# Altium footprint library Infineon Transceiver.PcbLib: 19 footprints (part 1 of 2)
Each footprint in its own frame and in the unit in brackets; x right, y up, seen from the top. Pads: shape width x height; smd on the part's side, far side on the other; paste and mask are expansions set on the pad; w line width, h text height; cw(c..) or ccw(c..) is an arc to the next point about the centre after c.
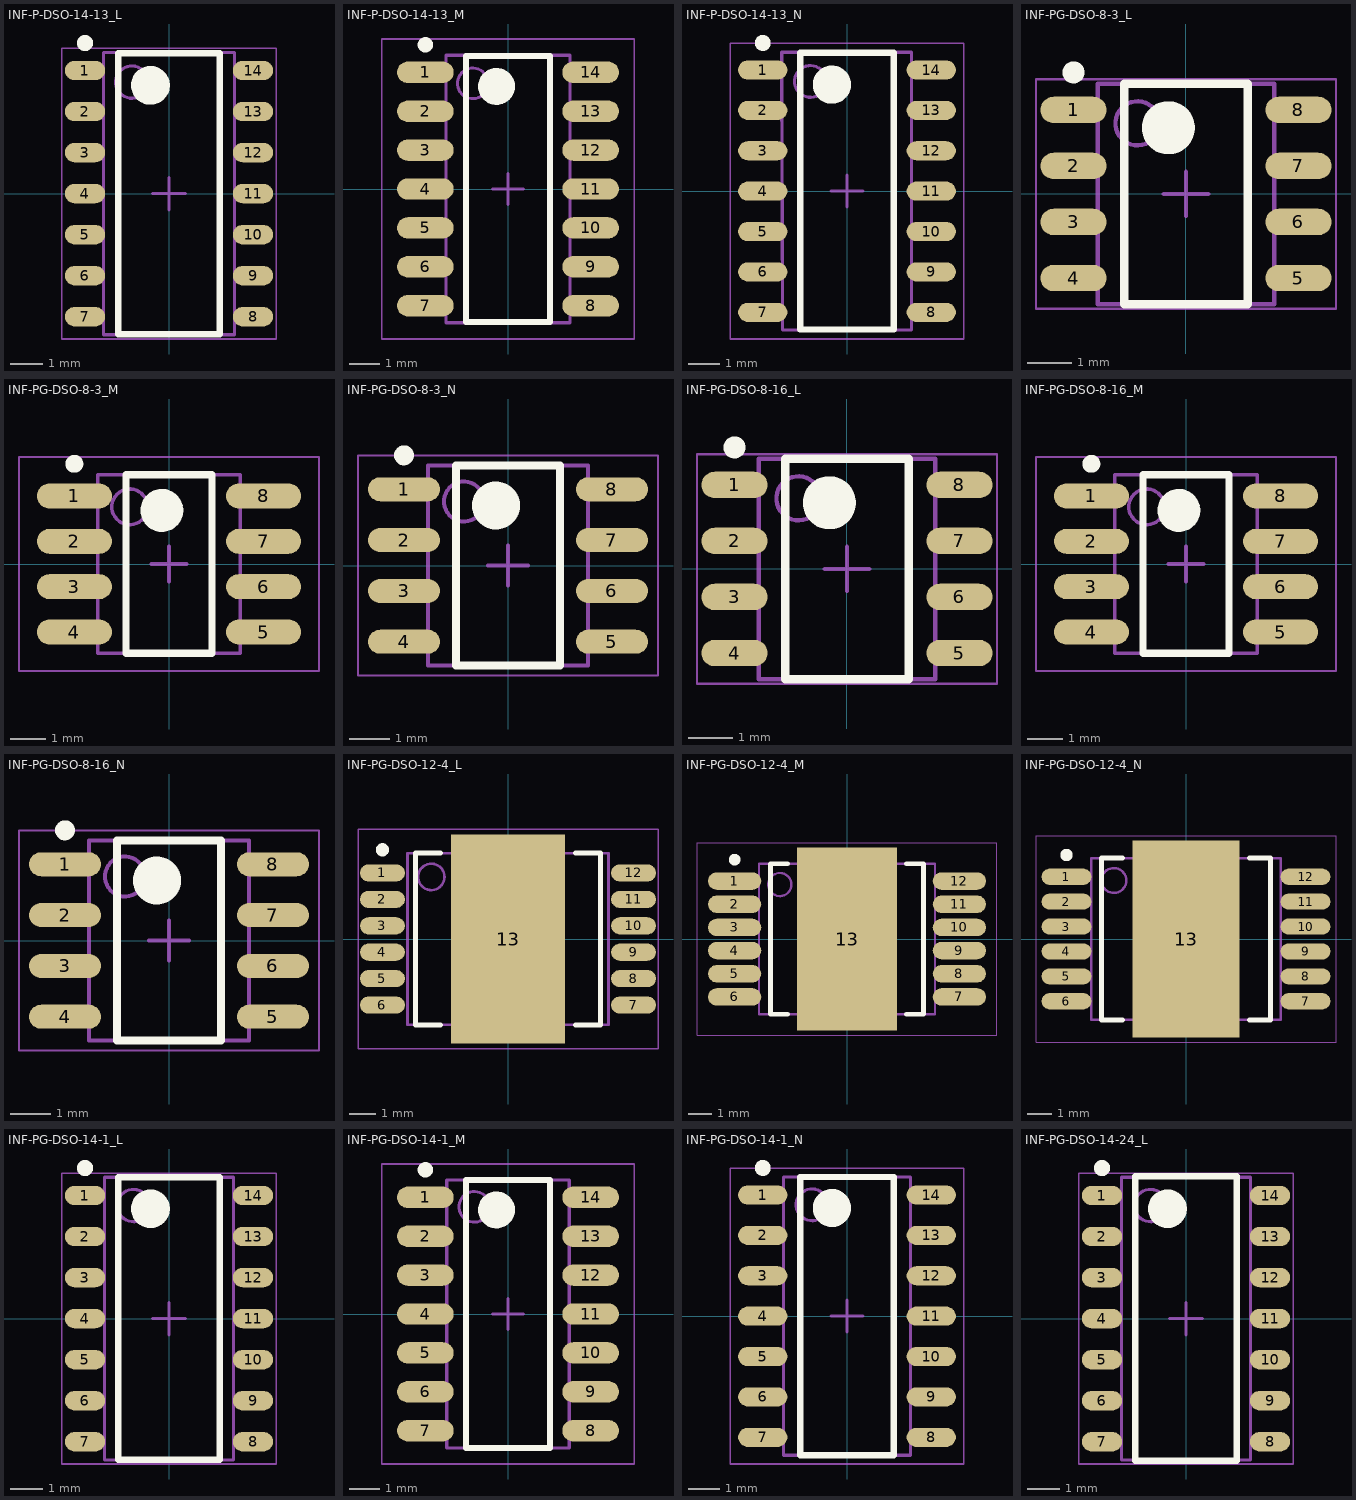
[diagram p0: the footprints below, top view; thin cyan lines are the x and y axes]

## INF-P-DSO-14-13_L [mm] "SOP, 14-Leads, Body 8.69x4mm, Pitch 1.27mm, IPC High Density"
height 1.75
pads (14):
  oval 1.25x0.6 smd: 1(-2.6,3.81) 2(-2.6,2.54) 3(-2.6,1.27) 4(-2.6,0) 5(-2.6,-1.27) 6(-2.6,-2.54) 7(-2.6,-3.81) 8(2.6,-3.81) 9(2.6,-2.54) 10(2.6,-1.27) 11(2.6,0) 12(2.6,1.27) 13(2.6,2.54) 14(2.6,3.81)
Top Overlay:
  circle w0.6: c-0.575,3.35 r0.3
  circle w0.25: c-2.6,4.66 r0.125
  lines w0.2: -1.575,-4.35 1.575,-4.35 1.575,4.35 -1.575,4.35 -1.575,-4.35
Mechanical 13:
  circle w0.1: c-1.15,3.45 r0.5
  lines w0.1: -2.025,-4.37 2.025,-4.37 2.025,4.37 -2.025,4.37 -2.025,-4.37
Mechanical 15:
  lines w0.05: -3.325,-4.5 3.325,-4.5 3.325,4.5 -3.325,4.5 -3.325,-4.5
  lines w0.1: -0.5,0 0.5,0 ; 0,-0.5 0,0.5
3D body: height 1.75, standoff 0.1, extent -2.025,-4.37 2.025,4.37

## INF-P-DSO-14-13_M [mm] "SOP, 14-Leads, Body 8.69x4mm, Pitch 1.27mm, IPC Low Density"
height 1.75
pads (14):
  oval 1.85x0.7 smd: 1(-2.7,3.81) 2(-2.7,2.54) 3(-2.7,1.27) 4(-2.7,0) 5(-2.7,-1.27) 6(-2.7,-2.54) 7(-2.7,-3.81) 8(2.7,-3.81) 9(2.7,-2.54) 10(2.7,-1.27) 11(2.7,0) 12(2.7,1.27) 13(2.7,2.54) 14(2.7,3.81)
Top Overlay:
  circle w0.6: c-0.375,3.35 r0.3
  circle w0.25: c-2.7,4.71 r0.125
  lines w0.2: -1.375,-4.35 1.375,-4.35 1.375,4.35 -1.375,4.35 -1.375,-4.35
Mechanical 13:
  circle w0.1: c-1.15,3.45 r0.5
  lines w0.1: -2.025,-4.37 2.025,-4.37 2.025,4.37 -2.025,4.37 -2.025,-4.37
Mechanical 15:
  lines w0.05: -4.125,-4.9 4.125,-4.9 4.125,4.9 -4.125,4.9 -4.125,-4.9
  lines w0.1: -0.5,0 0.5,0 ; 0,-0.5 0,0.5
3D body: height 1.75, standoff 0.1, extent -2.025,-4.37 2.025,4.37

## INF-P-DSO-14-13_N [mm] "SOP, 14-Leads, Body 8.69x4mm, Pitch 1.27mm, IPC Medium Density"
height 1.75
pads (14):
  oval 1.55x0.6 smd: 1(-2.65,3.81) 2(-2.65,2.54) 3(-2.65,1.27) 4(-2.65,0) 5(-2.65,-1.27) 6(-2.65,-2.54) 7(-2.65,-3.81) 8(2.65,-3.81) 9(2.65,-2.54) 10(2.65,-1.27) 11(2.65,0) 12(2.65,1.27) 13(2.65,2.54) 14(2.65,3.81)
Top Overlay:
  circle w0.6: c-0.475,3.35 r0.3
  circle w0.25: c-2.65,4.66 r0.125
  lines w0.2: -1.475,-4.35 1.475,-4.35 1.475,4.35 -1.475,4.35 -1.475,-4.35
Mechanical 13:
  circle w0.1: c-1.15,3.45 r0.5
  lines w0.1: -2.05,4.37 -2.025,-4.37 2.025,-4.37 2.025,4.37 -2.025,4.37
Mechanical 15:
  lines w0.05: -3.675,-4.65 3.675,-4.65 3.675,4.65 -3.675,4.65 -3.675,-4.65
  lines w0.1: -0.5,0 0.5,0 ; 0,-0.5 0,0.5
3D body: height 1.75, standoff 0.1, extent -2.05,-4.37 2.025,4.37

## INF-PG-DSO-8-3_L [mm] "SOP, 8-Leads, Body 4.9x3.9mm, Pitch 1.27mm, IPC High Density"
height 1.75
pads (8):
  oval 1.5x0.6 smd: 1(-2.55,1.905) 2(-2.55,0.635) 3(-2.55,-0.635) 4(-2.55,-1.905) 5(2.55,-1.905) 6(2.55,-0.635) 7(2.55,0.635) 8(2.55,1.905)
Top Overlay:
  circle w0.6: c-0.4,1.5 r0.3
  circle w0.25: c-2.55,2.755 r0.125
  lines w0.2: -1.4,-2.5 1.4,-2.5 1.4,2.5 -1.4,2.5 -1.4,-2.5
Mechanical 13:
  circle w0.1: c-1.1,1.6 r0.5
  lines w0.1: -2,-2.5 2,-2.5 2,2.5 -2,2.5 -2,-2.5
Mechanical 15:
  lines w0.05: -3.4,-2.6 3.4,-2.6 3.4,2.6 -3.4,2.6 -3.4,-2.6
  lines w0.1: -0.5,0 0.5,0 ; 0,-0.5 0,0.5
3D body: height 1.75, standoff 0.1, extent -2,-2.5 2,2.5

## INF-PG-DSO-8-3_M [mm] "SOP, 8-Leads, Body 4.9x3.9mm, Pitch 1.27mm, IPC Low Density"
height 1.75
pads (8):
  oval 2.1x0.7 smd: 1(-2.65,1.905) 2(-2.65,0.635) 3(-2.65,-0.635) 4(-2.65,-1.905) 5(2.65,-1.905) 6(2.65,-0.635) 7(2.65,0.635) 8(2.65,1.905)
Top Overlay:
  circle w0.25: c-2.65,2.805 r0.125
  circle w0.6: c-0.2,1.5 r0.3
  lines w0.2: -1.2,-2.5 -1.2,2.5 1.2,2.5 1.2,-2.5 -1.2,-2.5
Mechanical 13:
  circle w0.1: c-1.1,1.6 r0.5
  lines w0.1: -2,-2.5 -2,2.5 2,2.5 2,-2.5 -2,-2.5
Mechanical 15:
  lines w0.05: -4.2,-3 -4.2,3 4.2,3 4.2,-3 -4.2,-3
  lines w0.1: -0.5,0 0.5,0 ; 0,-0.5 0,0.5
3D body: height 1.75, standoff 0.1, extent -2,-2.5 2,2.5

## INF-PG-DSO-8-3_N [mm] "SOP, 8-Leads, Body 4.9x3.9mm, Pitch 1.27mm, IPC Medium Density"
height 1.75
pads (8):
  oval 1.8x0.6 smd: 1(-2.6,1.905) 2(-2.6,0.635) 3(-2.6,-0.635) 4(-2.6,-1.905) 5(2.6,-1.905) 6(2.6,-0.635) 7(2.6,0.635) 8(2.6,1.905)
Top Overlay:
  circle w0.25: c-2.6,2.755 r0.125
  circle w0.6: c-0.3,1.5 r0.3
  lines w0.2: -1.3,-2.5 -1.3,2.5 1.3,2.5 1.3,-2.5 -1.3,-2.5
Mechanical 13:
  circle w0.1: c-1.1,1.6 r0.5
  lines w0.1: -2,-2.5 -2,2.5 2,2.5 2,-2.5 -2,-2.5
Mechanical 15:
  lines w0.05: -3.75,-2.75 -3.75,2.75 3.75,2.75 3.75,-2.75 -3.75,-2.75
  lines w0.1: -0.5,0 0.5,0 ; 0,-0.5 0,0.5
3D body: height 1.75, standoff 0.1, extent -2,-2.5 2,2.5

## INF-PG-DSO-8-16_L [mm] "SOP, 8-Leads, Body 4.9x3.9mm, Pitch 1.27mm, IPC High Density"
height 1.75
pads (8):
  oval 1.5x0.6 smd: 1(-2.55,1.905) 2(-2.55,0.635) 3(-2.55,-0.635) 4(-2.55,-1.905) 5(2.55,-1.905) 6(2.55,-0.635) 7(2.55,0.635) 8(2.55,1.905)
Top Overlay:
  circle w0.25: c-2.55,2.755 r0.125
  circle w0.6: c-0.4,1.5 r0.3
  lines w0.2: -1.4,-2.5 -1.4,2.5 1.4,2.5 1.4,-2.5 -1.4,-2.5
Mechanical 13:
  circle w0.1: c-1.1,1.6 r0.5
  lines w0.1: -2,-2.5 -2,2.5 2,2.5 2,-2.5 -2,-2.5
Mechanical 15:
  lines w0.05: -3.4,-2.6 -3.4,2.6 3.4,2.6 3.4,-2.6 -3.4,-2.6
  lines w0.1: -0.5,0 0.5,0 ; 0,-0.5 0,0.5
3D body: height 1.75, standoff 0.11, extent -2,-2.5 2,2.5

## INF-PG-DSO-8-16_M [mm] "SOP, 8-Leads, Body 4.9x3.9mm, Pitch 1.27mm, IPC Low Density"
height 1.75
pads (8):
  oval 2.1x0.7 smd: 1(-2.65,1.905) 2(-2.65,0.635) 3(-2.65,-0.635) 4(-2.65,-1.905) 5(2.65,-1.905) 6(2.65,-0.635) 7(2.65,0.635) 8(2.65,1.905)
Top Overlay:
  circle w0.25: c-2.65,2.805 r0.125
  circle w0.6: c-0.2,1.5 r0.3
  lines w0.2: -1.2,-2.5 -1.2,2.5 1.2,2.5 1.2,-2.5 -1.2,-2.5
Mechanical 13:
  circle w0.1: c-1.1,1.6 r0.5
  lines w0.1: -2,-2.5 -2,2.5 2,2.5 2,-2.5 -2,-2.5
Mechanical 15:
  lines w0.05: -4.2,-3 -4.2,3 4.2,3 4.2,-3 -4.2,-3
  lines w0.1: -0.5,0 0.5,0 ; 0,-0.5 0,0.5
3D body: height 1.75, standoff 0.11, extent -2,-2.5 2,2.5

## INF-PG-DSO-8-16_N [mm] "SOP, 8-Leads, Body 4.9x3.9mm, Pitch 1.27mm, IPC Medium Density"
height 1.75
pads (8):
  oval 1.8x0.6 smd: 1(-2.6,1.905) 2(-2.6,0.635) 3(-2.6,-0.635) 4(-2.6,-1.905) 5(2.6,-1.905) 6(2.6,-0.635) 7(2.6,0.635) 8(2.6,1.905)
Top Overlay:
  circle w0.25: c-2.6,2.755 r0.125
  circle w0.6: c-0.3,1.5 r0.3
  lines w0.2: -1.3,-2.5 -1.3,2.5 1.3,2.5 1.3,-2.5 -1.3,-2.5
Mechanical 13:
  circle w0.1: c-1.1,1.6 r0.5
  lines w0.1: -2,-2.5 -2,2.5 2,2.5 2,-2.5 -2,-2.5
Mechanical 15:
  lines w0.05: -3.75,-2.75 -3.75,2.75 3.75,2.75 3.75,-2.75 -3.75,-2.75
  lines w0.1: -0.5,0 0.5,0 ; 0,-0.5 0,0.5
3D body: height 1.75, standoff 0.11, extent -2,-2.5 2,2.5

## INF-PG-DSO-12-4_L [mm] "SOP, 12-Leads, Body 7.5x6.4mm, Pitch 1mm, Thermal Pad 7.9x4.3mm, IPC High Density"
height 2.6
pads (13):
  oval 1.7x0.65 smd: 1(-4.75,2.5) 2(-4.75,1.5) 3(-4.75,0.5) 4(-4.75,-0.5) 5(-4.75,-1.5) 6(-4.75,-2.5) 7(4.75,-2.5) 8(4.75,-1.5) 9(4.75,-0.5) 10(4.75,0.5) 11(4.75,1.5) 12(4.75,2.5)
  rect 4.3x7.9 smd: 13(0,0)
Top Overlay:
  circle w0.25: c-4.75,3.375 r0.125
  lines w0.2: -2.55,-3.25 -3.5,-3.25 -3.5,3.25 -2.55,3.25 ; 2.55,-3.25 3.5,-3.25 3.5,3.25 2.55,3.25
Mechanical 13:
  circle w0.1: c-2.9,2.35 r0.5
  lines w0.1: -3.8,-3.25 -3.8,3.25 3.8,3.25 3.8,-3.25 -3.8,-3.25
Mechanical 15:
  lines w0.05: -5.675,-4.15 -5.675,4.15 5.675,4.15 5.675,-4.15 -5.675,-4.15
  lines w0.1: -0.5,0 0.5,0 ; 0,-0.5 0,0.5
3D body: height 2.6, standoff 0, extent -3.8,-3.25 3.8,3.25

## INF-PG-DSO-12-4_M [mm] "SOP, 12-Leads, Body 7.5x6.4mm, Pitch 1mm, Thermal Pad 7.9x4.3mm, IPC Low Density"
height 2.6
pads (13):
  oval 2.3x0.75 smd: 1(-4.85,2.5) 2(-4.85,1.5) 3(-4.85,0.5) 4(-4.85,-0.5) 5(-4.85,-1.5) 6(-4.85,-2.5) 7(4.85,-2.5) 8(4.85,-1.5) 9(4.85,-0.5) 10(4.85,0.5) 11(4.85,1.5) 12(4.85,2.5)
  rect 4.3x7.9 smd: 13(0,0)
Top Overlay:
  circle w0.25: c-4.85,3.425 r0.125
  lines w0.2: -2.55,-3.25 -3.3,-3.25 -3.3,3.25 -2.55,3.25 ; 2.55,-3.25 3.3,-3.25 3.3,3.25 2.55,3.25
Mechanical 13:
  circle w0.1: c-2.9,2.35 r0.5
  lines w0.1: -3.8,-3.25 -3.8,3.25 3.8,3.25 3.8,-3.25 -3.8,-3.25
Mechanical 15:
  lines w0.05: -6.475,-4.15 -6.475,4.15 6.475,4.15 6.475,-4.15 -6.475,-4.15
  lines w0.1: -0.5,0 0.5,0 ; 0,-0.5 0,0.5
3D body: height 2.6, standoff 0, extent -3.8,-3.25 3.8,3.25

## INF-PG-DSO-12-4_N [mm] "SOP, 12-Leads, Body 7.5x6.4mm, Pitch 1mm, Thermal Pad 7.9x4.3mm, IPC Medium Density"
height 2.6
pads (13):
  oval 2x0.65 smd: 1(-4.8,2.5) 2(-4.8,1.5) 3(-4.8,0.5) 4(-4.8,-0.5) 5(-4.8,-1.5) 6(-4.8,-2.5) 7(4.8,-2.5) 8(4.8,-1.5) 9(4.8,-0.5) 10(4.8,0.5) 11(4.8,1.5) 12(4.8,2.5)
  rect 4.3x7.9 smd: 13(0,0)
Top Overlay:
  circle w0.25: c-4.8,3.375 r0.125
  lines w0.2: -2.55,-3.25 -3.4,-3.25 -3.4,3.25 -2.55,3.25 ; 2.55,-3.25 3.4,-3.25 3.4,3.25 2.55,3.25
Mechanical 13:
  circle w0.1: c-2.9,2.35 r0.5
  lines w0.1: -3.8,-3.25 -3.8,3.25 3.8,3.25 3.8,-3.25 -3.8,-3.25
Mechanical 15:
  lines w0.05: -6.025,-4.15 -6.025,4.15 6.025,4.15 6.025,-4.15 -6.025,-4.15
  lines w0.1: -0.5,0 0.5,0 ; 0,-0.5 0,0.5
3D body: height 2.6, standoff 0, extent -3.8,-3.25 3.8,3.25

## INF-PG-DSO-14-1_L [mm] "SOP, 14-Leads, Body 8.65x3.9mm, Pitch 1.27mm, IPC High Density"
height 1.75
pads (14):
  oval 1.25x0.6 smd: 1(-2.6,3.81) 2(-2.6,2.54) 3(-2.6,1.27) 4(-2.6,0) 5(-2.6,-1.27) 6(-2.6,-2.54) 7(-2.6,-3.81) 8(2.6,-3.81) 9(2.6,-2.54) 10(2.6,-1.27) 11(2.6,0) 12(2.6,1.27) 13(2.6,2.54) 14(2.6,3.81)
Top Overlay:
  circle w0.6: c-0.575,3.4 r0.3
  circle w0.25: c-2.6,4.66 r0.125
  lines w0.2: -1.575,-4.375 1.575,-4.375 1.575,4.375 -1.575,4.375 -1.575,-4.375
Mechanical 13:
  circle w0.1: c-1.1,3.5 r0.5
  lines w0.1: -2,-4.375 2,-4.375 2,4.375 -2,4.375 -2,-4.375
Mechanical 15:
  lines w0.05: -3.325,-4.5 3.325,-4.5 3.325,4.5 -3.325,4.5 -3.325,-4.5
  lines w0.1: -0.5,0 0.5,0 ; 0,-0.5 0,0.5
3D body: height 1.75, standoff 0.11, extent -2,-4.375 2,4.375

## INF-PG-DSO-14-1_M [mm] "SOP, 14-Leads, Body 8.65x3.9mm, Pitch 1.27mm, IPC Low Density"
height 1.75
pads (14):
  oval 1.85x0.7 smd: 1(-2.7,3.81) 2(-2.7,2.54) 3(-2.7,1.27) 4(-2.7,0) 5(-2.7,-1.27) 6(-2.7,-2.54) 7(-2.7,-3.81) 8(2.7,-3.81) 9(2.7,-2.54) 10(2.7,-1.27) 11(2.7,0) 12(2.7,1.27) 13(2.7,2.54) 14(2.7,3.81)
Top Overlay:
  circle w0.6: c-0.375,3.4 r0.3
  circle w0.25: c-2.7,4.71 r0.125
  lines w0.2: -1.375,-4.375 1.375,-4.375 1.375,4.375 -1.375,4.375 -1.375,-4.375
Mechanical 13:
  circle w0.1: c-1.1,3.5 r0.5
  lines w0.1: -2,-4.375 2,-4.375 2,4.375 -2,4.375 -2,-4.375
Mechanical 15:
  lines w0.05: -4.125,-4.9 4.125,-4.9 4.125,4.9 -4.125,4.9 -4.125,-4.9
  lines w0.1: -0.5,0 0.5,0 ; 0,-0.5 0,0.5
3D body: height 1.75, standoff 0.11, extent -2,-4.375 2,4.375

## INF-PG-DSO-14-1_N [mm] "SOP, 14-Leads, Body 8.65x3.9mm, Pitch 1.27mm, IPC Medium Density"
height 1.75
pads (14):
  oval 1.55x0.6 smd: 1(-2.65,3.81) 2(-2.65,2.54) 3(-2.65,1.27) 4(-2.65,0) 5(-2.65,-1.27) 6(-2.65,-2.54) 7(-2.65,-3.81) 8(2.65,-3.81) 9(2.65,-2.54) 10(2.65,-1.27) 11(2.65,0) 12(2.65,1.27) 13(2.65,2.54) 14(2.65,3.81)
Top Overlay:
  circle w0.6: c-0.475,3.4 r0.3
  circle w0.25: c-2.65,4.66 r0.125
  lines w0.2: -1.475,-4.375 1.475,-4.375 1.475,4.375 -1.475,4.375 -1.475,-4.375
Mechanical 13:
  circle w0.1: c-1.1,3.5 r0.5
  lines w0.1: -2,-4.375 2,-4.375 2,4.375 -2,4.375 -2,-4.375
Mechanical 15:
  lines w0.05: -3.675,-4.65 3.675,-4.65 3.675,4.65 -3.675,4.65 -3.675,-4.65
  lines w0.1: -0.5,0 0.5,0 ; 0,-0.5 0,0.5
3D body: height 1.75, standoff 0.11, extent -2,-4.375 2,4.375

## INF-PG-DSO-14-24_L [mm] "SOP, 14-Leads, Body 8.65x3.9mm, Pitch 1.27mm, IPC High Density"
height 1.75
pads (14):
  oval 1.25x0.6 smd: 1(-2.6,3.81) 2(-2.6,2.54) 3(-2.6,1.27) 4(-2.6,0) 5(-2.6,-1.27) 6(-2.6,-2.54) 7(-2.6,-3.81) 8(2.6,-3.81) 9(2.6,-2.54) 10(2.6,-1.27) 11(2.6,0) 12(2.6,1.27) 13(2.6,2.54) 14(2.6,3.81)
Top Overlay:
  circle w0.6: c-0.575,3.4 r0.3
  circle w0.25: c-2.6,4.66 r0.125
  lines w0.2: -1.575,-4.4 1.575,-4.4 1.575,4.4 -1.575,4.4 -1.575,-4.4
Mechanical 13:
  circle w0.1: c-1.1,3.5 r0.5
  lines w0.1: -2,-4.375 2,-4.375 2,4.375 -2,4.375 -2,-4.375
Mechanical 15:
  lines w0.05: -3.325,-4.5 3.325,-4.5 3.325,4.5 -3.325,4.5 -3.325,-4.5
  lines w0.1: -0.5,0 0.5,0 ; 0,-0.5 0,0.5
3D body: height 1.75, standoff 0.1, extent -2,-4.4 2,4.4